# Altium schematic symbol library Components - 25.02.24 - 15.13.SchLib: 1 symbol
Pins are listed as number, name and electrical type; pins without a type are passive.

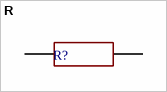
[diagram p0: symbol R]

## R
designator R?, comment RC0402FR-074K7L  (value not drawn)
Manufacturer: Yageo / Phycomp; Part Number: RC0402FR-074K7L
footprint RES: 0402
pins: 1, 2
1 alternate drawing of the same symbol